# EAGLE library part DRV8860 (library TI)
TI DRV8860 Package: TSSOP-16 The DR8860 provides an 8-channel low side driver. It can be used to drive unipolar stepper motors, DC motors, relays, solenoids, or other loads. Newark: DRV8860 <http://www.newark.com/texas-instruments/drv8860pw/motor-driver-stepper-560ma-tssop/dp/11X3139?ost=drv8860&selectedCategoryId=&categoryId=800000004663> Datasheet:http://www.ti.com/lit/gpn/drv8860
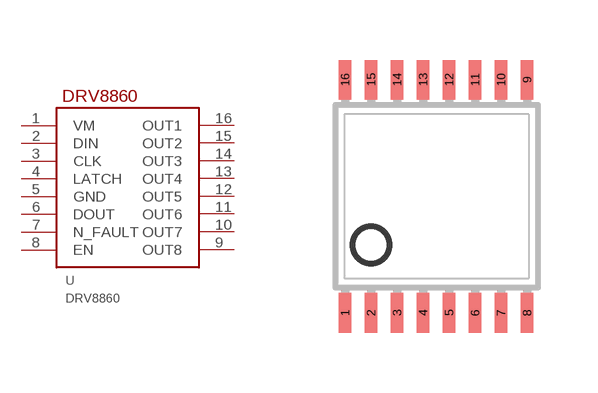
[diagram p22: symbol with the pads of TSSOP16; footprint TSSOP16]

Designator prefix -

## DRV8860 (PARTNO: DRV8860)  [TSSOP16]
1  VM
2  DIN
3  CLK
4  LATCH
5  GND
6  DOUT
7  N_FAULT
8  EN
9  OUT8
10  OUT7
11  OUT6
12  OUT5
13  OUT4
14  OUT3
15  OUT2
16  OUT1

## Footprint TSSOP16 (pad centres in mm)
smd 0.305 x 0.991: 1 -2.29,-2.918; 2 -1.64,-2.918; 3 -0.99,-2.918; 4 -0.34,-2.918; 5 0.31,-2.918; 6 0.96,-2.918; 7 1.61,-2.918; 8 2.26,-2.918; 9 2.26,2.918; 10 1.61,2.918; 11 0.96,2.918; 12 0.31,2.918; 13 -0.34,2.918; 14 -0.99,2.918; 15 -1.64,2.918; 16 -2.29,2.918